# EAGLE library part AS-ITM-00099 (library tinycircuits)
Barometric Pressure Sensor
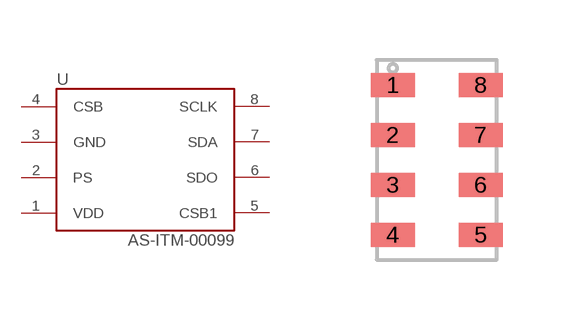
[diagram p41: symbol with the pads of MS5611-01BA03; footprint MS5611-01BA03]

Designator prefix U

## AS-ITM-00099 (PARTNO: AS-ITM-00099; VALUE: MS5611-01BA03)  [MS5611-01BA03]
1  VDD
2  PS
3  GND
4  CSB
5  CSB1
6  SDO
7  SDA
8  SCLK

## Footprint MS5611-01BA03 (pad centres in mm)
smd 1.1 x 0.6: 1 0.4,4.375; 2 0.4,3.125; 3 0.4,1.875; 4 0.4,0.625; 5 2.6,0.625; 6 2.6,1.875; 7 2.6,3.125; 8 2.6,4.375